# Altium footprint library SnapEDApcb.PcbLib: 1 footprints
Each footprint in its own frame and in the unit in brackets; x right, y up, seen from the top. Pads: shape width x height; smd on the part's side, far side on the other; paste and mask are expansions set on the pad; w line width, h text height; cw(c..) or ccw(c..) is an arc to the next point about the centre after c.
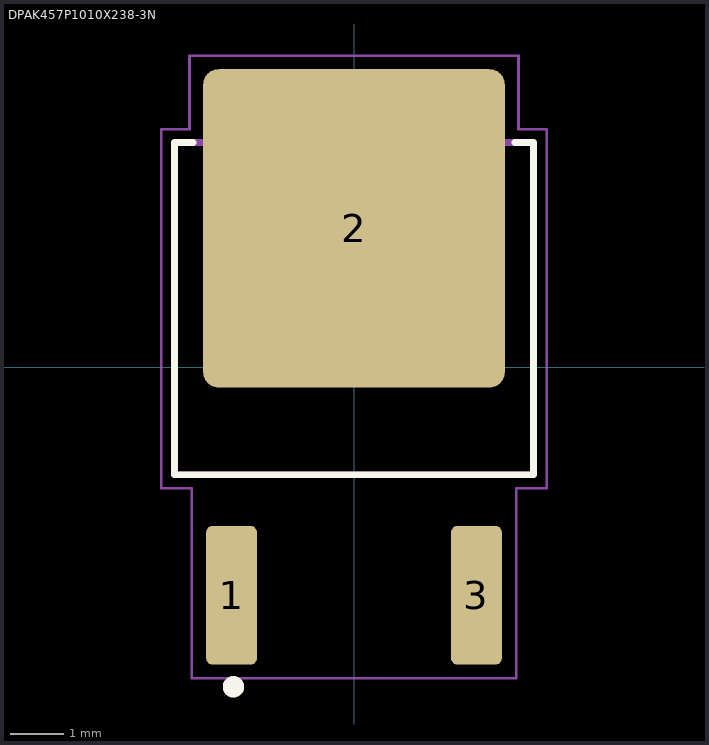
[diagram p0: the footprint, top view; thin cyan lines are the x and y axes]

## DPAK457P1010X238-3N [mm]
pads (3):
  rrect25% 0.95x2.59 smd: 1(-2.286,-4.26) 3(2.286,-4.26)
  rrect10% 5.63x5.94 smd: 2(0,2.59)
Top Overlay:
  circle w0.2: c-2.25,-5.969 r0.1
  lines w0.127: -3,4.19 -3.35,4.19 -3.35,-2.01 3.35,-2.01 3.35,4.19 3,4.19
Mechanical 13:
  lines w0.127: -3.35,-2.01 3.35,-2.01 3.35,4.19 -3.35,4.19 -3.35,-2.01
Mechanical 15:
  lines w0.05: -3.6,-2.26 -3.6,4.44 -3.07,4.44 -3.07,5.81 3.07,5.81 3.07,4.44 3.6,4.44 3.6,-2.26 3.03,-2.26 3.03,-5.81 -3.03,-5.81 -3.03,-2.26 -3.6,-2.26
3D body: height 0.25, standoff 0, extent 0,0 0,0
3D body "User Library-TO252-2_TO252-21.sldprt": height 2.29, standoff 0, extent -3.278,-1.907 3.302,4.193
3D body "User Library-TO252-2_TO252-22.sldprt": height 1.57, standoff 1.07, extent 1.905,-2.532 2.705,-1.532
3D body "User Library-TO252-2_TO252-23.sldprt": height 1.57, standoff 0, extent 1.905,-5.053 2.705,-2.313
3D body "User Library-TO252-2_TO252-24.sldprt": height 1.57, standoff 0, extent -2.667,-5.18 -1.867,-2.44
3D body "User Library-TO252-2_TO252-25.sldprt": height 0.5, standoff 0, extent -2.725,0.21 2.725,5.42
3D body "User Library-TO252-2_TO252-22.sldprt": height 1.57, standoff 1.07, extent -2.667,-2.659 -1.867,-1.659
3D body "User Library-TO252-2_TO252-22.sldprt": height 1.57, standoff 1.07, extent -0.273,-2.794 0.527,-1.794